# Altium schematic symbol library 35312-0460.SchLib: 1 symbol
Pins are listed as number, name and electrical type; pins without a type are passive.

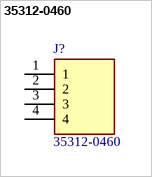
[diagram p0: symbol 35312-0460]

## 35312-0460
designator J?
Headers & Wire Housings 2.5 PITCH W/B CONN WAFER ASSY; Manufacturer_Name: Molex; Geometry.Height: 7mm; Mouser Part Number: 538-35312-0460; Mouser Price/Stock: https://www.mouser.co.uk/ProductDetail/Molex/35312-0460?qs=K5bGVUuM57oIWvCwIBpyrQ%3D%3D; Manufacturer_Part_Number: 35312-0460; Datasheet Link: https://www.molex.com/pdm_docs/sd/353120460_sd.pdf
footprint SHDR4W64P0X250_1X4_1246X650X700P
pins: 1, 2, 3, 4